# EAGLE library part CP2102 (library pepelac)
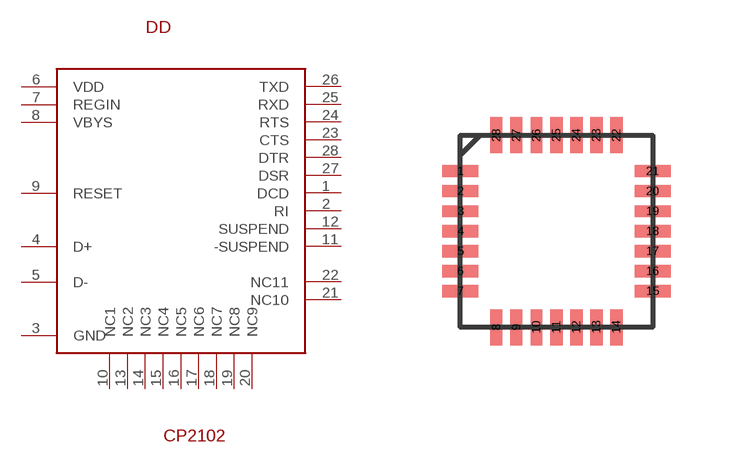
[diagram p6: symbol with the pads of QFN28; footprint QFN28]

Designator prefix DD

## CP2102  [QFN28]
1  DCD
2  RI
3  GND
4  D+
5  D-
6  VDD
7  REGIN
8  VBYS
9  RESET
10  NC1
11  -SUSPEND
12  SUSPEND
13  NC2
14  NC3
15  NC4
16  NC5
17  NC6
18  NC7
19  NC8
20  NC9
21  NC10
22  NC11
23  CTS
24  RTS
25  RXD
26  TXD
27  DSR
28  DTR

## Footprint QFN28 (pad centres in mm)
smd 0.9 x 0.3: 1 -2.4,1.5; 2 -2.4,1; 3 -2.4,0.5; 4 -2.4,0; 5 -2.4,-0.5; 6 -2.4,-1; 7 -2.4,-1.5; 15 2.4,-1.5; 16 2.4,-1; 17 2.4,-0.5; 18 2.4,0; 19 2.4,0.5; 20 2.4,1; 21 2.4,1.5
smd 0.3 x 0.9: 8 -1.5,-2.4; 9 -1,-2.4; 10 -0.5,-2.4; 11 0,-2.4; 12 0.5,-2.4; 13 1,-2.4; 14 1.5,-2.4; 22 1.5,2.4; 23 1,2.4; 24 0.5,2.4; 25 0,2.4; 26 -0.5,2.4; 27 -1,2.4; 28 -1.5,2.4